# Altium footprint library AditionalFootprints.PcbLib: 15 footprints
Each footprint in its own frame and in the unit in brackets; x right, y up, seen from the top. Pads: shape width x height; smd on the part's side, far side on the other; paste and mask are expansions set on the pad; w line width, h text height; cw(c..) or ccw(c..) is an arc to the next point about the centre after c.
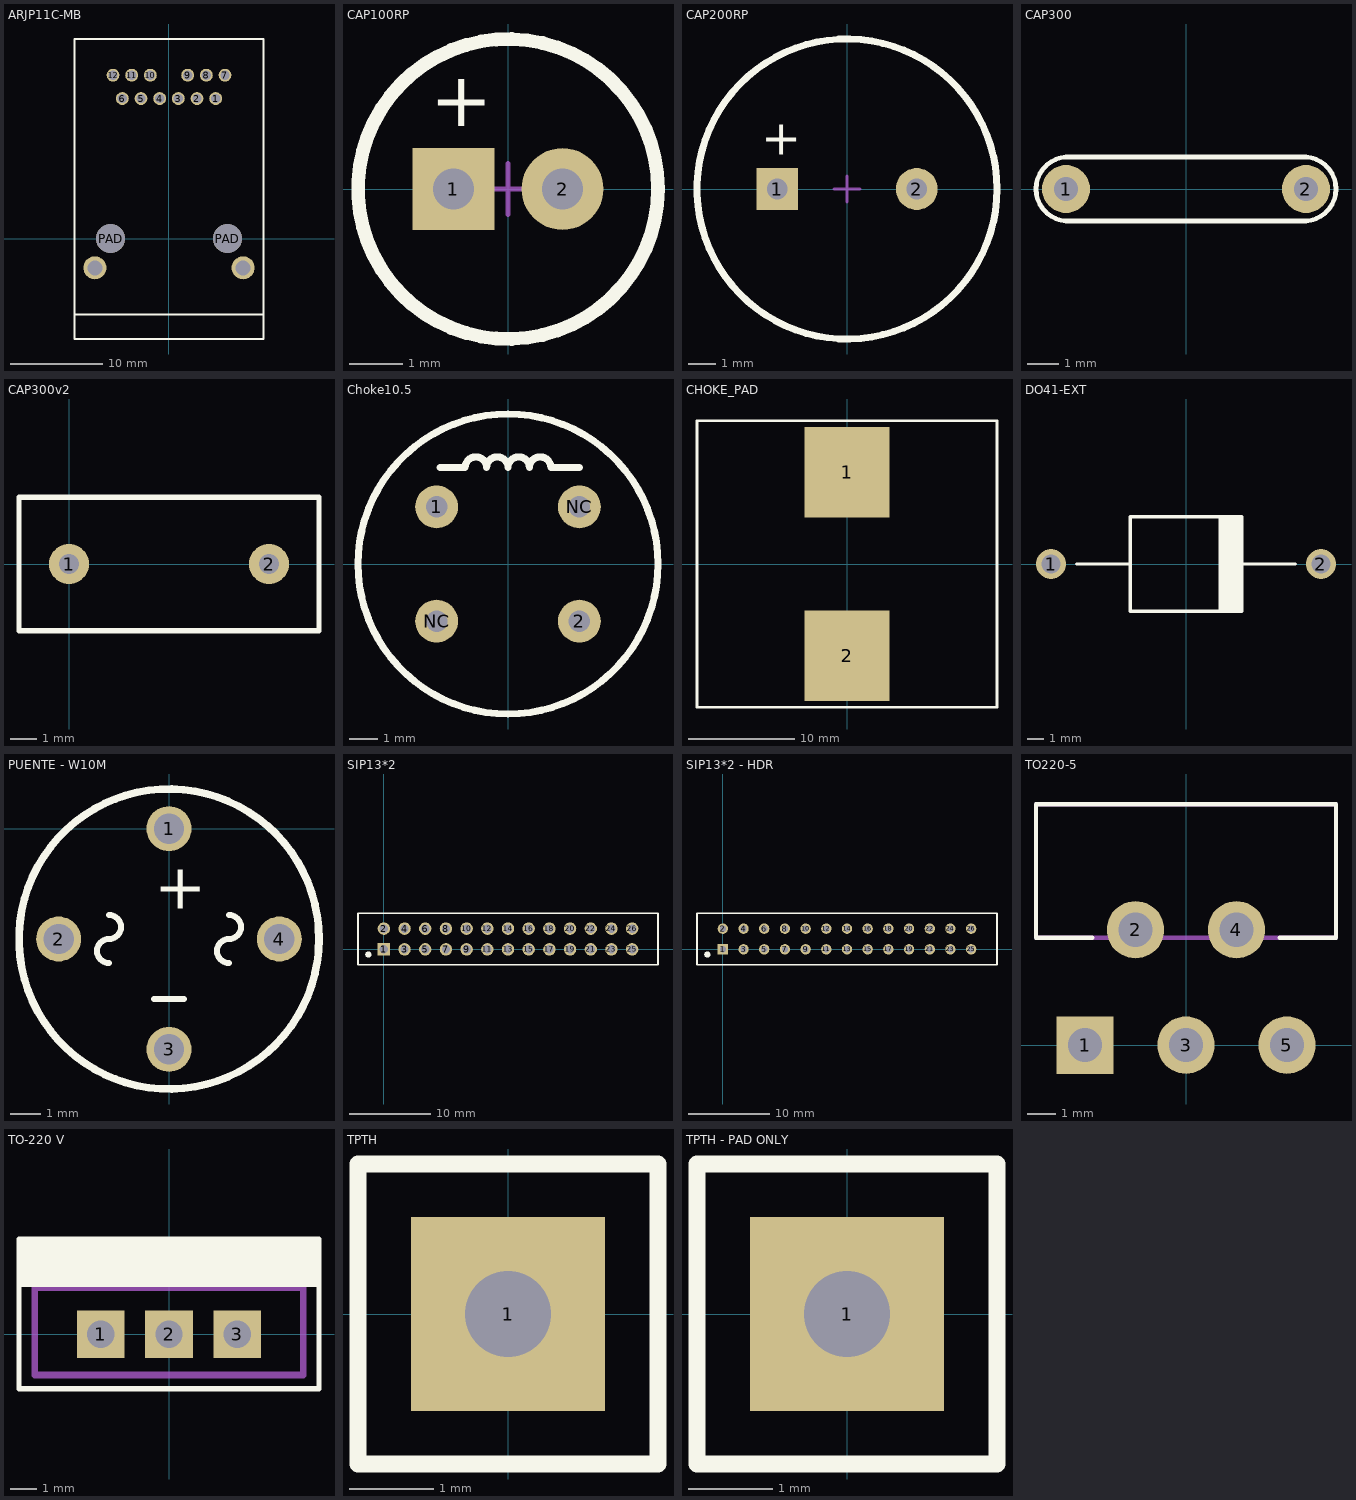
[diagram p0: the footprints below, top view; thin cyan lines are the x and y axes]

## ARJP11C-MB [mm] "Magjack Conector for PoE"
pads (16):
  round 1.4 hole 1.016: 1(5.075,15.24) 2(3.045,15.24) 3(1.015,15.24) 4(-1.015,15.24) 5(-3.045,15.24) 6(-5.075,15.24) 7(6.09,17.78) 8(4.06,17.78) 9(2.03,17.78) 10(-2.03,17.78) 11(-4.06,17.78) 12(-6.09,17.78)
  round 3.15 hole 3.175: PAD(-6.35,0) PAD(6.35,0)
  round 2.5 hole 1.651: SHIELD(-8.065,-3.18) SHIELD(8.065,-3.18)
Top Overlay:
  lines w0.254: -10.287,-8.255 10.287,-8.255 ; -10.287,-10.922 10.287,-10.922 10.287,21.717 -10.287,21.717 -10.287,-10.922
3D body "ARJP11C-MB.STEP": height 15.92, standoff -3.35, extent -10.33,-10.9 10.33,21.7

## CAP100RP [mil] "Body diameter 5mm"
pads (2):
  rect 60x60 hole 30: 1(-40,0)
  round 60 hole 30: 2(40,0)
Top Overlay:
  circle w10: c0,0 r110
  text "+" at -57,46 h40
Mechanical 15:
  lines w3.94: -18.7,0 18.7,0 ; 0,-18.7 0,18.7
3D body "User Library-Cap electro 5x11x2mm.step": height 453.76, standoff -128.81, extent -99.43,-99 99.43,99.85

## CAP200RP [mil] "Body Diameter 10.33mm"
pads (2):
  rect 60x60 hole 30: 1(-100,0)
  round 60 hole 30: 2(100,0)
Top Overlay:
  circle w10: c0,0 r215
  text "+" at -123,49 h50
Mechanical 15:
  lines w3.94: -18.7,0 18.7,0 ; 0,-18.7 0,18.7
3D body: height 62.99, standoff -78.74, extent 86.71,-11.76 110.24,11.81
3D body: height 62.99, standoff -78.74, extent -110.14,-11.76 -86.61,11.81
3D body "ECA1HM471.STEP": height 787.4, standoff -669.29, extent -196.85,-196.85 196.85,196.85

## CAP300 [mil] "Capacitor Poliester 8mm"
pads (2):
  round 60 hole 30: 1(-150,0) 2(150,0)
Top Overlay:
  lines w5.91: -150,-40 cw(c-147.48,0) -150,40 150,40 cw(c147.48,0) 150,-40 -150,-40

## CAP300v2 [mil]
pads (2):
  round 60 hole 30: 1(0,0) 2(300,0)
Top Overlay:
  lines w7.87: -75,-100 375,-100 375,100 -75,100 -75,-100
3D body "SV04_AVX.step": height 220, standoff -175, extent -75,-100 375,100

## Choke10.5 [mil] "Choke Inductor 10.5mm"
pads (4):
  round 60 hole 30: 1(-100,80) 2(100,-80) NC(-100,-80) NC(100,80)
Top Overlay:
  circle w10: c0,0 r210
  lines w10: -95,135 -60,135 cw(c-45,135) -30,135 cw(c-15,135) 0,135 cw(c15,135) 30,135 cw(c45,135) 60,135 100,135
3D body "Download_STP_WE-TIF_1018 (rev1).stp": height 709.16, standoff -137.3, extent -212.6,-212.6 212.6,212.6

## CHOKE_PAD [mm] "Choke Inductor SMD"
pads (2):
  rect 8x8.5 smd: 1(0,8.636) 2(0,-8.636)
Top Overlay:
  lines w0.254: -14.097,-13.462 -0.508,-13.462 14.097,-13.462 14.097,13.462 -0.508,13.462 -14.097,13.462 -14.097,-13.462
3D body "Download_STP_WE-HCF-2920-Round (rev1).stp": height 20, standoff 0, extent -13.65,-11.548 13.65,11.548

## DO41-EXT [mil]
pads (2):
  round 70 hole 45: 1(-315,0) 2(315,0)
Top Overlay:
  rectangle: 80,-110 130,110
  lines w7.87: -255,0 -130,0 ; 80,-110 80,110 ; 130,0 255,0 ; -130,-110 -130,110 130,110 130,-110 -130,-110
3D body "MUR410G.STEP": height 220.47, standoff -577.56, extent -332.09,-110.24 332.09,110.24

## PUENTE - W10M [mm]
pads (4):
  round 1.5 hole 1.016: 1(0,0) 2(-3.677,-3.677) 3(0,-7.354) 4(3.677,-3.677)
Top Overlay:
  circle w0.254: c0,-3.677 r5
  lines w0.2: -2,-4.477 cw(c-2,-4.077) -2.4,-4.077 cw(c-2,-4.077) -2,-3.677 ccw(c-2,-3.277) -1.6,-3.277 ccw(c-2,-3.277) -2,-2.877 ; -0.5,-5.677 0.5,-5.677 ; 2,-4.477 cw(c2,-4.077) 1.6,-4.077 cw(c2,-4.077) 2,-3.677 ccw(c2,-3.277) 2.4,-3.277 ccw(c2,-3.277) 2,-2.877
  text "+" at -0.5,-2.677 h1.52
3D body "DIO_WOBM_MTC.step": height 4.6, standoff -3.81, extent -4.815,-8.576 4.989,1.222

## SIP13*2 [mil]
pads (26):
  rect 60x60 hole 40: 1(0,0)
  round 60 hole 40: 2(0,100) 3(100,0) 4(100,100) 5(200,0) 6(200,100) 7(300,0) 8(300,100) 9(400,0) 10(400,100) 11(500,0) 12(500,100) 13(600,0) 14(600,100) 15(700,0) 16(700,100) 17(800,0) 18(800,100) 19(900,0) 20(900,100) 21(1000,0) 22(1000,100) 23(1100,0) 24(1100,100) 25(1200,0) 26(1200,100)
Top Overlay:
  circle w10: c-75,-25 r10
  circle w10: c-78.46,-25 r4.92
  lines w7.87: -125,-75 -125,175 1325,175 1325,-75 -125,-75
3D body "SIP3_2.step": height 397.64, standoff -59.06, extent 850.31,-51 1150.31,149
3D body "SIP3_2.step": height 397.64, standoff -59.06, extent 550.31,-51 850.31,149
3D body "SIP3_2.step": height 397.64, standoff -59.06, extent 250.31,-51 550.31,149
3D body "SIP3_2.step": height 397.64, standoff -59.06, extent -49.69,-51 250.31,149
3D body "SIP3_2.step": height 397.64, standoff -59.06, extent 950.31,-51 1250.31,149

## SIP13*2 - HDR [mil]
pads (26):
  rect 50x50 hole 30: 1(0,0)
  round 50 hole 30: 2(0,100) 3(100,0) 4(100,100) 5(200,0) 6(200,100) 7(300,0) 8(300,100) 9(400,0) 10(400,100) 11(500,0) 12(500,100) 13(600,0) 14(600,100) 15(700,0) 16(700,100) 17(800,0) 18(800,100) 19(900,0) 20(900,100) 21(1000,0) 22(1000,100) 23(1100,0) 24(1100,100) 25(1200,0) 26(1200,100)
Top Overlay:
  circle w10: c-75,-25 r10
  circle w10: c-78.46,-25 r4.92
  lines w7.87: -125,-75 -125,175 1325,175 1325,-75 -125,-75
3D body "SSW-113-01-F-P.stp": height 335, standoff -104, extent -60,-47.5 1260,47.5
3D body "SSW-113-01-F-P.stp": height 335, standoff -104, extent -60,52.51 1260,147.51

## TO220-5 [mil]
pads (5):
  rect 79.5x79.5 hole 47.24: 1(-140,0)
  round 79.5 hole 47.24: 2(-70,160) 3(0,0) 4(70,160) 5(140,0)
Top Overlay:
  lines w6: -130,149 -208,149 -208,334 208,334 208,149 130,149
Mechanical 13:
  lines w6: -208,149 -208,334 208,334 208,149 -208,149
3D body "LF03.STEP": height 824, standoff -149, extent -200,-6.45 200,327.05

## TO-220 V [mil]
pads (3):
  rect 70x70 hole 40: 1(-100,0) 2(0,0) 3(100,0)
Top Overlay:
  region: -220,139.37 -220,70 220,70 220,139.37
  lines w7.87: -220,-80 220,-80 220,139.37 -220,139.37 -220,-80
Mechanical 13:
  lines w10: -196.85,68.11 196.85,68.11 ; -196.85,-60 196.85,-60 196.85,110 -196.85,110 -196.85,-60
3D body "NOPB.STEP": height 900, standoff -329.92, extent -200,-58.46 200,106.69

## TPTH [mm]
pads (1):
  rect 2.3x2.3 hole 1.016: 1(0,0)
Top Overlay:
  lines w0.2: -1.778,-1.778 1.778,-1.778 1.778,1.778 -1.778,1.778 -1.778,-1.778
3D body "User Library-Header Vertical 2_54mm Pitch2-1.step": height 6.04, standoff -2.84, extent -1.27,-1.27 1.27,1.27

## TPTH - PAD ONLY [mm]
pads (1):
  rect 2.3x2.3 hole 1.016: 1(0,0)
Top Overlay:
  lines w0.2: -1.778,-1.778 -1.778,1.778 1.778,1.778 1.778,-1.778 -1.778,-1.778